# Altium schematic symbol library discrete.SchLib: 7 symbols
Pins are listed as number, name and electrical type; pins without a type are passive.

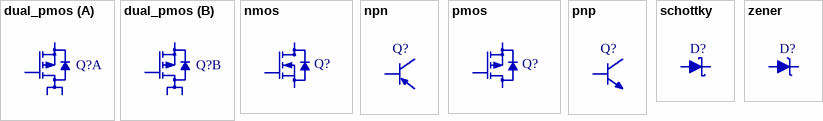
[diagram p0: symbols dual_pmos to zener]

## dual_pmos
designator Q?
=Description
part A pins: 1 S1, 2 G1, 7 D1, 8 D1
part B pins: 3 S2, 4 G2, 5 D2, 6 D2

## nmos
designator Q?
=Description
pins: 1 G, 2 S, 3 D

## npn
designator Q?
=Description
pins: 1 B, 2 E, 3 C

## pmos
designator Q?
=Description
pins: 1 G, 2 S, 3 D

## pnp
designator Q?
=Description
pins: 1 B, 2 E, 3 C

## schottky
designator D?
=Description
pins: 1 Cathode, 2 Anode

## zener
designator D?
=Description
pins: 1 Cathode, 2 Anode